# EAGLE library part FT232H (library FTDI)
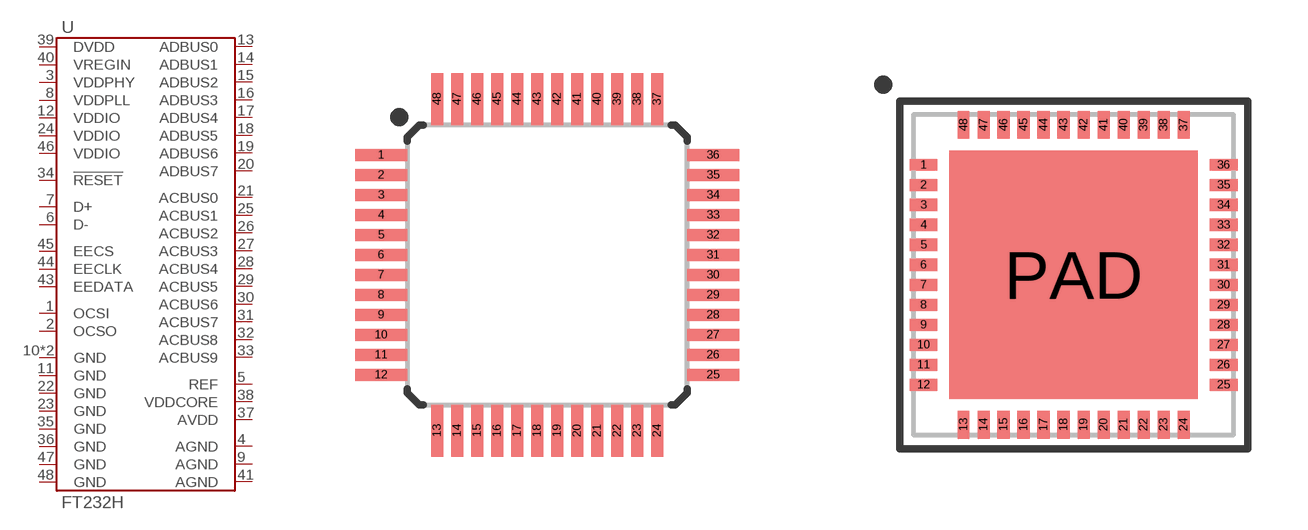
[diagram p1: symbol with the pads of LQFP-48; footprints LQFP-48, VQFN-48-8MM]

Designator prefix U

## FT232HL  [LQFP-48]
1  OCSI
2  OCSO
3  VDDPHY
4  AGND
5  REF
6  D-
7  D+
8  VDDPLL
9  AGND
10  GND
11  GND
12  VDDIO
13  ADBUS0
14  ADBUS1
15  ADBUS2
16  ADBUS3
17  ADBUS4
18  ADBUS5
19  ADBUS6
20  ADBUS7
21  ACBUS0
22  GND
23  GND
24  VDDIO
25  ACBUS1
26  ACBUS2
27  ACBUS3
28  ACBUS4
29  ACBUS5
30  ACBUS6
31  ACBUS7
32  ACBUS8
33  ACBUS9
34  !RESET
35  GND
36  GND
37  AVDD
38  VDDCORE
39  DVDD
40  VREGIN
41  AGND
42  GND
43  EEDATA
44  EECLK
45  EECS
46  VDDIO
47  GND
48  GND

## FT232HQ  [VQFN-48-8MM]
1  OCSI
2  OCSO
3  VDDPHY
4  AGND
5  REF
6  D-
7  D+
8  VDDPLL
9  AGND
10  GND
11  GND
12  VDDIO
13  ADBUS0
14  ADBUS1
15  ADBUS2
16  ADBUS3
17  ADBUS4
18  ADBUS5
19  ADBUS6
20  ADBUS7
21  ACBUS0
22  GND
23  GND
24  VDDIO
25  ACBUS1
26  ACBUS2
27  ACBUS3
28  ACBUS4
29  ACBUS5
30  ACBUS6
31  ACBUS7
32  ACBUS8
33  ACBUS9
34  !RESET
35  GND
36  GND
37  AVDD
38  VDDCORE
39  DVDD
40  VREGIN
41  AGND
42  GND
43  EEDATA
44  EECLK
45  EECS
46  VDDIO
47  GND
48  GND
PAD  GND

## Footprint LQFP-48 (pad centres in mm)
smd 1.3 x 0.3: 1 -4.15,2.75; 2 -4.15,2.25; 3 -4.15,1.75; 4 -4.15,1.25; 5 -4.15,0.75; 6 -4.15,0.25; 7 -4.15,-0.25; 8 -4.15,-0.75; 9 -4.15,-1.25; 10 -4.15,-1.75; 11 -4.15,-2.25; 12 -4.15,-2.75; 25 4.15,-2.75; 26 4.15,-2.25; 27 4.15,-1.75; 28 4.15,-1.25; 29 4.15,-0.75; 30 4.15,-0.25; 31 4.15,0.25; 32 4.15,0.75; 33 4.15,1.25; 34 4.15,1.75; 35 4.15,2.25; 36 4.15,2.75
smd 0.3 x 1.3: 13 -2.75,-4.15; 14 -2.25,-4.15; 15 -1.75,-4.15; 16 -1.25,-4.15; 17 -0.75,-4.15; 18 -0.25,-4.15; 19 0.25,-4.15; 20 0.75,-4.15; 21 1.25,-4.15; 22 1.75,-4.15; 23 2.25,-4.15; 24 2.75,-4.15; 37 2.75,4.15; 38 2.25,4.15; 39 1.75,4.15; 40 1.25,4.15; 41 0.75,4.15; 42 0.25,4.15; 43 -0.25,4.15; 44 -0.75,4.15; 45 -1.25,4.15; 46 -1.75,4.15; 47 -2.25,4.15; 48 -2.75,4.15

## Footprint VQFN-48-8MM (pad centres in mm)
smd 0.7 x 0.3: 1 -3.75,2.75; 2 -3.75,2.25; 3 -3.75,1.75; 4 -3.75,1.25; 5 -3.75,0.75; 6 -3.75,0.25; 7 -3.75,-0.25; 8 -3.75,-0.75; 9 -3.75,-1.25; 10 -3.75,-1.75; 11 -3.75,-2.25; 12 -3.75,-2.75; 25 3.75,-2.75; 26 3.75,-2.25; 27 3.75,-1.75; 28 3.75,-1.25; 29 3.75,-0.75; 30 3.75,-0.25; 31 3.75,0.25; 32 3.75,0.75; 33 3.75,1.25; 34 3.75,1.75; 35 3.75,2.25; 36 3.75,2.75
smd 0.3 x 0.7: 13 -2.75,-3.75; 14 -2.25,-3.75; 15 -1.75,-3.75; 16 -1.25,-3.75; 17 -0.75,-3.75; 18 -0.25,-3.75; 19 0.25,-3.75; 20 0.75,-3.75; 21 1.25,-3.75; 22 1.75,-3.75; 23 2.25,-3.75; 24 2.75,-3.75; 37 2.75,3.75; 38 2.25,3.75; 39 1.75,3.75; 40 1.25,3.75; 41 0.75,3.75; 42 0.25,3.75; 43 -0.25,3.75; 44 -0.75,3.75; 45 -1.25,3.75; 46 -1.75,3.75; 47 -2.25,3.75; 48 -2.75,3.75
smd 6.2 x 6.2: PAD 0,0